# Altium footprint library Semiconductors.PcbLib: 51 footprints (part 2 of 4)
Each footprint in its own frame and in the unit in brackets; x right, y up, seen from the top. Pads: shape width x height; smd on the part's side, far side on the other; paste and mask are expansions set on the pad; w line width, h text height; cw(c..) or ccw(c..) is an arc to the next point about the centre after c.
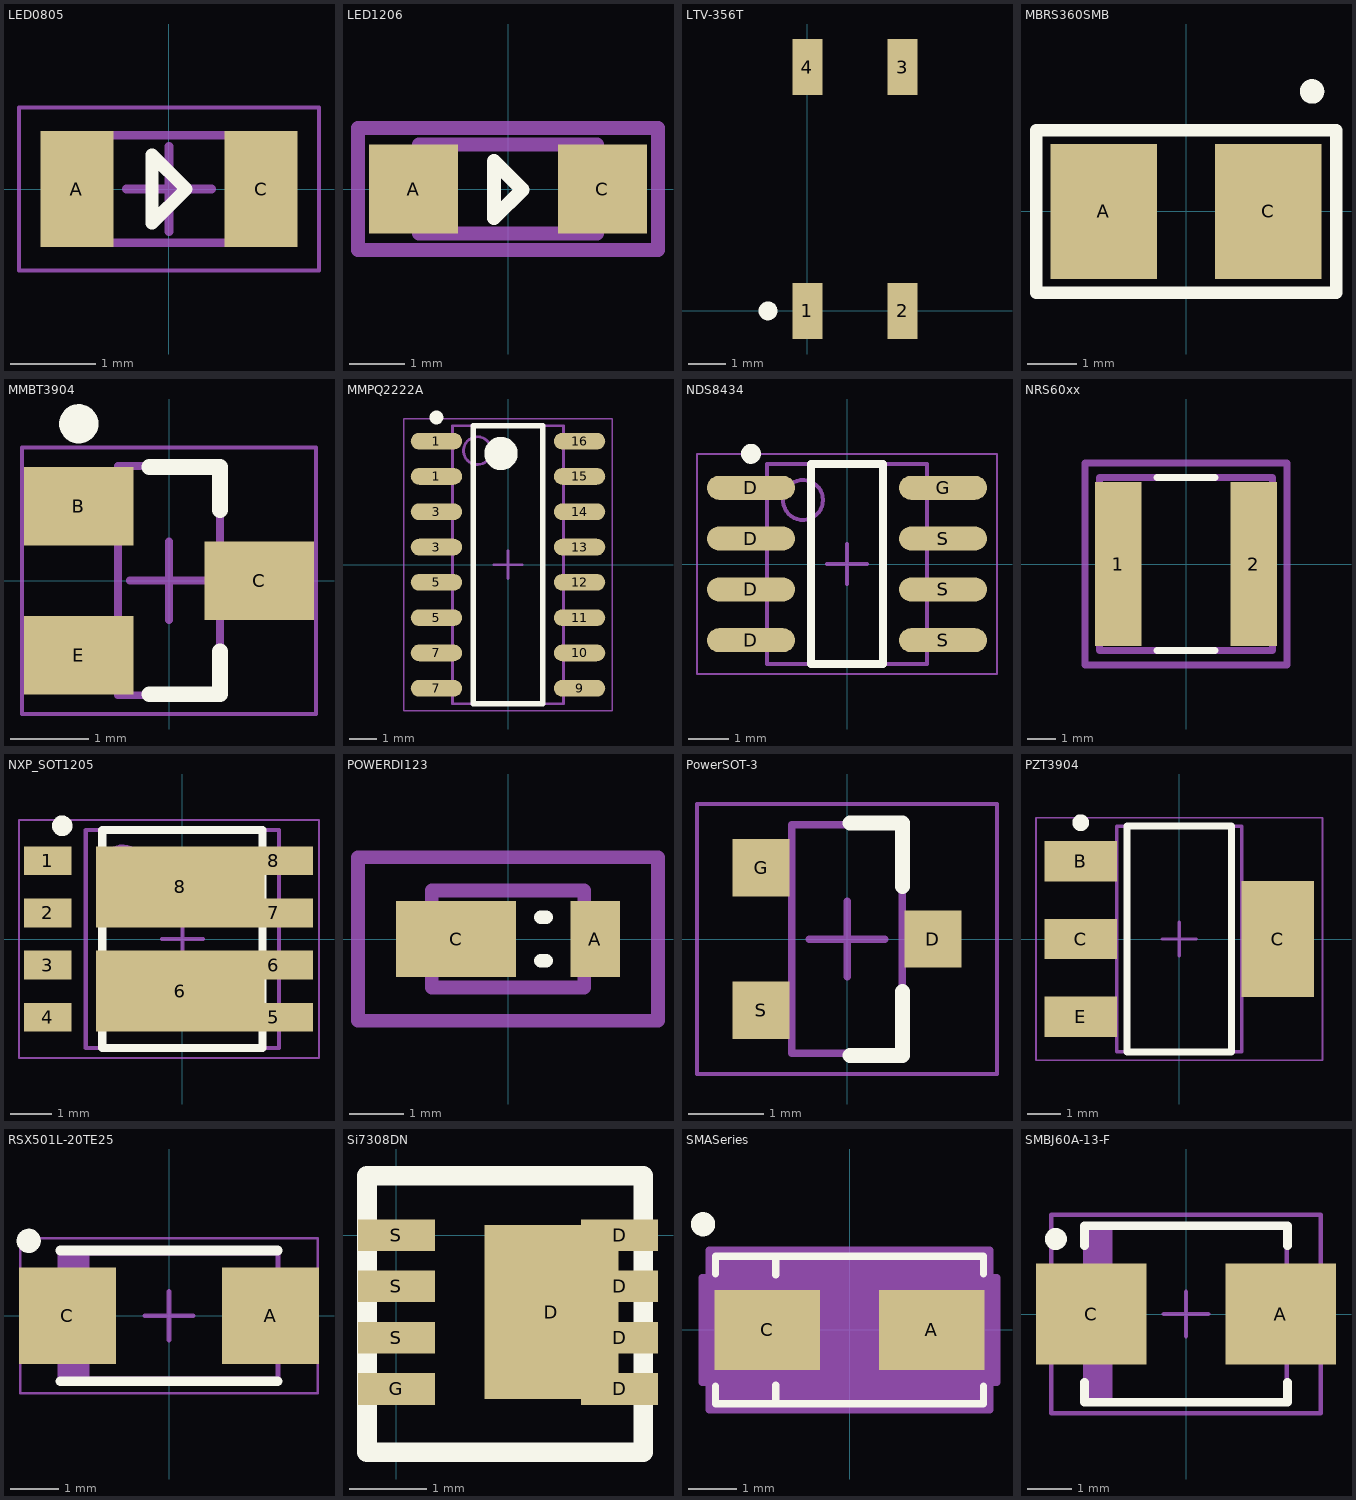
[diagram p1: the footprints below, top view; thin cyan lines are the x and y axes]

## LED0805 [mm] "Chip LED, 2-Leads, Body 2.00x1.25mm, IPC Medium Density"
height 0.75
pads (2):
  rect 0.85x1.35 smd: A(-1.075,0) C(1.075,0)
Top Overlay:
  lines w0.15: -0.2,-0.4 0.2,0 -0.2,0.4 -0.2,-0.4
Mechanical 13:
  lines w0.1: -1,-0.625 1,-0.625 1,0.625 -1,0.625 -1,-0.625
Mechanical 15:
  lines w0.05: -1.75,-0.95 1.75,-0.95 1.75,0.95 -1.75,0.95 -1.75,-0.95
  lines w0.1: -0.5,0 0.5,0 ; 0,-0.5 0,0.5
3D body: height 0.75, standoff 0, extent 0.6,-0.625 1,0.625
3D body: height 0.75, standoff 0, extent -1,-0.625 -0.6,0.625
3D body: height 0.75, standoff 0, extent -0.6,-0.625 0.6,0.625

## LED1206 [mm]
height 1.1
pads (2):
  rect 1.6x1.6 smd: A(-1.7,0) C(1.7,0)
Top Overlay:
  lines w0.254: -0.25,-0.525 0.262,-0.013 -0.25,0.5 -0.25,-0.525
Mechanical 13:
  lines w0.254: -1.6,-0.8 1.6,-0.8 1.6,0.8 -1.6,0.8 -1.6,-0.8
Mechanical 15:
  lines w0.254: -2.7,-1.1 -2.7,1.1 2.7,1.1 2.7,-1.1 -2.7,-1.1
3D body: height 1.1, standoff 0, extent -1.6,-0.8 1.6,0.8

## LTV-356T [mm] "OPTOISOLATOR 3.75KV TRANS 4-SOP"
pads (4):
  rect 0.8x1.5 smd: 1(0,0) 2(2.54,0) 3(2.54,6.5) 4(0,6.5)
Top Overlay:
  circle w0.254: c-1.05,0 r0.125

## MBRS360SMB [mil]
pads (2):
  rect 85x107.99 smd: A(-65.76,0) C(65.76,0)
Top Overlay:
  circle w9.84: c100.83,96.02 r4.92
  lines w10: -120,-65 -120,65 120,65 120,-65 -120,-65
3D body "Diode SMA.stp": height 94.95, standoff 0, extent -105,-59.96 102.88,55

## MMBT3904 [mm] "SOT23, 3-Leads, Body 2.92x2.40mm, Pitch 0.95mm, IPC Medium Density"
height 1.2
pads (3):
  rect 1.4x1 smd: B(-1.15,0.95) C(1.15,0) E(-1.15,-0.95)
Top Overlay:
  circle w0.25: c-1.15,2 r0.125
  lines w0.2: -0.25,-1.45 0.65,-1.45 0.65,-0.9 ; -0.25,1.45 0.65,1.45 0.65,0.9
Mechanical 13:
  lines w0.1: -0.65,-1.46 -0.65,1.46 0.65,1.46 0.65,-1.46 -0.65,-1.46
Mechanical 15:
  lines w0.05: -1.875,-1.7 -1.875,1.7 1.875,1.7 1.875,-1.7 -1.875,-1.7
  lines w0.1: -0.5,0 0.5,0 ; 0,-0.5 0,0.5
3D body: height 1.2, standoff 0, extent -0.65,-1.46 0.65,1.46

## MMPQ2222A [mm] "SOIC, 16-Leads, Body 9.90x3.90mm, Pitch 1.27mm, IPC Medium Density"
height 1.35
pads (16):
  oval 1.85x0.6 smd: 1(-2.575,3.175) 1(-2.575,4.445) 3(-2.575,0.635) 3(-2.575,1.905) 5(-2.575,-1.905) 5(-2.575,-0.635) 7(-2.575,-4.445) 7(-2.575,-3.175) 9(2.575,-4.445) 10(2.575,-3.175) 11(2.575,-1.905) 12(2.575,-0.635) 13(2.575,0.635) 14(2.575,1.905) 15(2.575,3.175) 16(2.575,4.445)
Top Overlay:
  circle w0.6: c-0.25,4 r0.3
  circle w0.25: c-2.575,5.295 r0.125
  lines w0.2: -1.25,-5 1.25,-5 1.25,5 -1.25,5 -1.25,-5
Mechanical 13:
  circle w0.1: c-1.1,4.1 r0.5
  lines w0.1: -2,-5 2,-5 2,5 -2,5 -2,-5
Mechanical 15:
  lines w0.05: -3.75,-5.25 3.75,-5.25 3.75,5.25 -3.75,5.25 -3.75,-5.25
  lines w0.1: -0.5,0 0.5,0 ; 0,-0.5 0,0.5
3D body: height 1.75, standoff 0.05, extent -2,-5 2,5

## NDS8434 [mm] "MOSFET P-CH 20V 6.5A 8-SOIC"
pads (8):
  oval 2.2x0.6 smd: D(-2.4,-1.905) D(-2.4,-0.635) D(-2.4,0.635) D(-2.4,1.905) G(2.4,1.905) S(2.4,-1.905) S(2.4,-0.635) S(2.4,0.635)
Top Overlay:
  circle w0.25: c-2.4,2.755 r0.125
  lines w0.2: -0.9,-2.5 0.9,-2.5 0.9,2.5 -0.9,2.5 -0.9,-2.5
Mechanical 13:
  circle w0.1: c-1.1,1.6 r0.5
  lines w0.1: -2,-2.5 2,-2.5 2,2.5 -2,2.5 -2,-2.5
Mechanical 15:
  lines w0.05: -3.75,-2.75 3.75,-2.75 3.75,2.75 -3.75,2.75 -3.75,-2.75
  lines w0.1: -0.5,0 0.5,0 ; 0,-0.5 0,0.5
3D body: height 1.75, standoff 0.25, extent -2,-2.5 2,2.5

## NRS60xx [mm] "SMD Power Inductor"
height 2.8
pads (2):
  rect 1.6x5.7 smd: 1(-2.35,0) 2(2.35,0)
Top Overlay:
  lines w0.254: -1,-3 1,-3 ; -1,3 1,3
Mechanical 13:
  lines w0.254: -3,-3 -3,3 3,3 3,-3 -3,-3
Mechanical 15:
  lines w0.254: -3.5,-3.5 -3.5,3.5 3.5,3.5 3.5,-3.5 -3.5,-3.5
3D body: height 4.5, standoff 0, extent -3,-3 3,3

## NXP_SOT1205 [mm] "TSOP, 8-Leads, Body 5.13x4.58mm, Pitch 1.27mm, Thermal Pad 2.00x2.00mm, IPC Medium Density"
height 1.05
pads (10):
  rect 1.15x0.7 smd: 1(-3.275,1.905) 2(-3.275,0.635) 3(-3.275,-0.635) 4(-3.275,-1.905)
  rect 1.9x0.7 smd: 5(2.225,-1.905) 6(2.225,-0.635) 7(2.225,0.635) 8(2.225,1.905)
  rect 4.1x1.97 smd: 6(-0.05,-1.27) 8(-0.05,1.27)
Top Overlay:
  circle w0.25: c-2.925,2.755 r0.125
  lines w0.2: -1.95,-2.65 1.95,-2.65 1.95,2.65 -1.95,2.65 -1.95,-2.65
Mechanical 13:
  circle w0.1: c-1.45,1.75 r0.5
  lines w0.1: -2.35,-2.65 2.35,-2.65 2.35,2.65 -2.35,2.65 -2.35,-2.65
Mechanical 15:
  lines w0.05: -3.975,-2.9 3.325,-2.9 3.325,2.9 -3.975,2.9 -3.975,-2.9
  lines w0.1: -0.5,0 0.5,0 ; 0,-0.5 0,0.5
3D body: height 1.05, standoff 0, extent -2.35,-2.65 2.35,2.65

## POWERDI123 [mm] "Diodes INC Power Diode"
pads (2):
  rect 0.9x1.4 smd: A(1.6,0)
  rect 2.2x1.4 smd: C(-0.95,0)
Top Overlay:
  lines w0.254: 0.6,-0.4 0.7,-0.4 ; 0.6,0.4 0.7,0.4
Mechanical 13:
  lines w0.254: -1.397,-0.889 1.397,-0.889 1.397,0.889 -1.397,0.889 -1.397,-0.889
Mechanical 15:
  lines w0.254: -2.75,-1.5 -2.75,1.5 2.75,1.5 2.75,-1.5 -2.75,-1.5
3D body: height 0.98, standoff 0, extent -1.397,-0.889 1.397,0.889

## PowerSOT-3 [mm] "SOT23, 3-Leads, Body 2.92x2.47mm, Pitch 0.95mm, IPC Medium Density"
height 1.12
pads (3):
  rect 0.76x0.76 smd: D(1.145,0) G(-1.145,0.95) S(-1.145,-0.95)
Top Overlay:
  lines w0.2: 0.04,-1.55 0.74,-1.55 0.74,-0.7 ; 0.04,1.55 0.74,1.55 0.74,0.7
Mechanical 13:
  lines w0.1: -0.74,-1.525 -0.74,1.525 0.74,1.525 0.74,-1.525 -0.74,-1.525
Mechanical 15:
  lines w0.05: -2,-1.8 -2,1.8 2,1.8 2,-1.8 -2,-1.8
  lines w0.1: -0.5,0 0.5,0 ; 0,-0.5 0,0.5
3D body: height 1.12, standoff 0.03, extent -0.74,-1.525 0.74,1.525

## PZT3904 [mm] "SOT223, 4-Leads, Body 6.45x7.00mm (avg), Pitch 2.30mm, IPC Medium Density"
height 1.8
pads (4):
  rect 2.15x1.2 smd: B(-2.925,2.3) C(-2.925,0) E(-2.925,-2.3)
  rect 2.15x3.45 smd: C(2.925,0)
Top Overlay:
  circle w0.25: c-2.925,3.45 r0.125
  lines w0.2: -1.55,-3.35 1.55,-3.35 1.55,3.35 -1.55,3.35 -1.55,-3.35
Mechanical 13:
  lines w0.1: -1.85,-3.35 1.85,-3.35 1.85,3.35 -1.85,3.35 -1.85,-3.35
Mechanical 15:
  lines w0.05: -4.25,-3.6 4.25,-3.6 4.25,3.6 -4.25,3.6 -4.25,-3.6
  lines w0.1: -0.5,0 0.5,0 ; 0,-0.5 0,0.5
3D body: height 1.8, standoff 0, extent -1.85,-3.35 1.85,3.35

## RSX501L-20TE25 [mm] "DIODE SCHOTTKY 20V 5A PMDS"
height 2
pads (2):
  rect 2x2 smd: A(2.1,0) C(-2.1,0)
Top Overlay:
  circle w0.25: c-2.9,1.55 r0.125
  lines w0.2: -2.25,-1.35 2.25,-1.35 ; -2.25,1.35 2.25,1.35
Mechanical 13:
  rectangle: -2.25,-1.3 -1.645,1.3
  lines w0.1: -2.25,-1.3 -2.25,1.3 2.25,1.3 2.25,-1.3 -2.25,-1.3
Mechanical 15:
  lines w0.05: -3.075,-1.6 -3.075,1.6 3.075,1.6 3.075,-1.6 -3.075,-1.6
  lines w0.1: -0.5,0 0.5,0 ; 0,-0.5 0,0.5
3D body: height 2, standoff 0, extent -2.25,-1.3 2.25,1.3

## Si7308DN [mil] "MOSFET, Fast Switching, NChan, 60V, 6A, 59millohm"
pads (9):
  rect 68x88 smd: D(78.5,-39)
  rect 39x16 smd: D(113,-78) D(113,-52) D(113,-26) D(113,0) G(0,-78) S(0,-52) S(0,-26) S(0,0)
Top Overlay:
  lines w10: -15,-110 -15,30 125,30 125,-110 -15,-110
3D body "PowerPAK 1212-8 Single Pad.step": height 40.43, standoff -0.71, extent -14.87,-109.76 124.87,30

## SMASeries [mil]
pads (2):
  rect 86x65 smd: A(67,0) C(-67,0)
Top Overlay:
  circle w9.84: c-119.17,86.02 r4.92
  lines w6: -109,-45.6 -109,-60 109,-60 109,-45.6 ; -109,45.6 -109,60 109,60 109,45.6 ; -60,-60 -60,-45 ; -60,45 -60,60
Mechanical 15:
  region: -114,-42.5 -120,-42.5 -120,42.5 -114,42.5 -114,65 114,65 114,42.5 120,42.5 120,-42.5 114,-42.5 114,-65 -114,-65
  lines w6: -120,-42.5 -114,-42.5 -114,-65 114,-65 114,-42.5 120,-42.5 120,42.5 114,42.5 114,65 -114,65 -114,42.5 -120,42.5 -120,-42.5
3D body "SMASeries.stp": height 92, standoff 0, extent -104,-55 104,55

## SMBJ60A-13-F [mm] "TVS UNIDIRECT 600W 60V SMB"
height 2.62
pads (2):
  rect 2.5x2.3 smd: A(2.15,0) C(-2.15,0)
Top Overlay:
  circle w0.25: c-2.95,1.7 r0.125
  lines w0.2: -2.3,-1.55 -2.3,-2 2.3,-2 2.3,-1.55 ; -2.3,1.55 -2.3,2 2.3,2 2.3,1.55
Mechanical 13:
  rectangle: -2.285,-1.97 -1.67,1.97
  lines w0.1: -2.285,-1.97 -2.285,1.97 2.285,1.97 2.285,-1.97 -2.285,-1.97
Mechanical 15:
  lines w0.1: -0.5,0 0.5,0 ; 0,-0.5 0,0.5 ; -3.05,-2.25 -3.05,2.25 3.05,2.25 3.05,-2.25 -3.05,-2.25
3D body: height 2.62, standoff 0, extent -2.285,-1.97 2.285,1.97